# EAGLE library part 621X1421921 (library Wurth_Elektronik_Electromechanic_Board_to_Board_Connectors_rev16a)
WR-PHD 2.00mm Dual SMT Pin Header, 14 Pins=>Code :WR-PHD_SMD_2,00mm_zweireihig621x1421921(packageing:x = 0: Tube x = 3: Tape & Reel with Cap) <http://katalog.we-online.de/media/images/eican/WR-PHD_SMD_2,00mm_zweireihig62103221921.jpg> 6210xx21921 Details see: http://katalog.we-online.de/en/em/621_0xx_219_21 6213xx21921 Details see: http://katalog.we-online.de/en/em/PHD_2_00_SMT_DUAL_PIN_HEADER_REEL_6213XX21921 2014 (C) Würth Elektronik
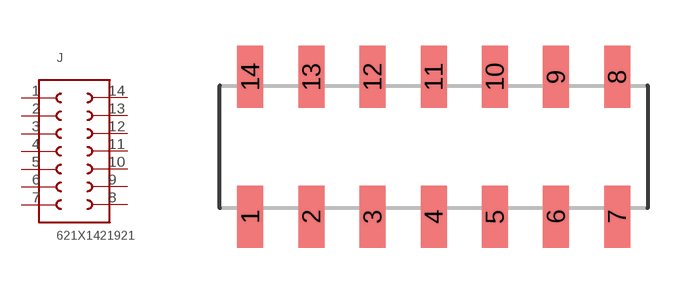
[diagram p245: symbol with the pads of 621X1421921; footprint 621X1421921]

Designator prefix J

## 621X1421921  [621X1421921]
1  1  pas
2  2  pas
3  3  pas
4  4  pas
5  5  pas
6  6  pas
7  7  pas
8  8  pas
9  9  pas
10  10  pas
11  11  pas
12  12  pas
13  13  pas
14  14  pas

## Footprint 621X1421921 (pad centres in mm)
WR-PHD 2.00mm Dual SMT Pin Header, 14 Pins
smd 0.85 x 2.03: 1 -9.54,-2.285; 2 -7.54,-2.285; 3 -5.54,-2.285; 4 -3.54,-2.285; 5 -1.54,-2.285; 6 0.46,-2.285; 7 2.46,-2.285; 8 2.46,2.285; 9 0.46,2.285; 10 -1.54,2.285; 11 -3.54,2.285; 12 -5.54,2.285; 13 -7.54,2.285; 14 -9.54,2.285